# Altium footprint library 532611571.PcbLib: 3 footprints
Each footprint in its own frame and in the unit in brackets; x right, y up, seen from the top. Pads: shape width x height; smd on the part's side, far side on the other; paste and mask are expansions set on the pad; w line width, h text height; cw(c..) or ccw(c..) is an arc to the next point about the centre after c.
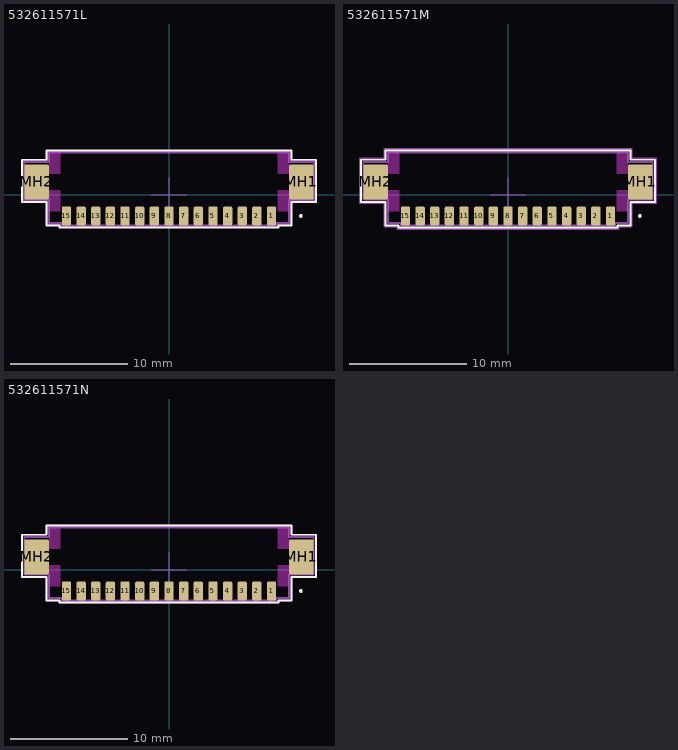
[diagram p0: the footprints below, top view; thin cyan lines are the x and y axes]

## 532611571L [mm] "Molex PicoBlade 15-Pin Right-Angle Connector with Tin Coating"
height 3.4
pads (17):
  rrect31% 0.8x1.6 smd: 1(8.75,-1.8) 2(7.5,-1.8) 3(6.25,-1.8) 4(5,-1.8) 5(3.75,-1.8) 6(2.5,-1.8) 7(1.25,-1.8) 8(0,-1.8) 9(-1.25,-1.8) 10(-2.5,-1.8) 11(-3.75,-1.8) 12(-5,-1.8) 13(-6.25,-1.8) 14(-7.5,-1.8) 15(-8.75,-1.8)
  rrect12% 2.1x3 smd: MH1(11.3,1.1) MH2(-11.3,1.1)
Top Layer keep-out:
  rectangle: -10.25,3.6 -9.25,1.8
  rectangle: 10.25,3.6 9.25,1.8
  rectangle: -10.25,-1.4 -9.25,0.4
  rectangle: 10.25,-1.4 9.25,0.4
Top Overlay:
  circle w0.16: c11.25,-1.8 r0.08
  lines w0.16: -12.55,-0.6 -10.45,-0.6 -10.45,-2.6 -9.35,-2.6 -9.35,-2.8 9.35,-2.8 9.35,-2.6 10.45,-2.6 10.45,-0.6 12.55,-0.6 12.55,3 10.45,3 10.45,3.8 -10.45,3.8 -10.45,3 -12.55,3 -12.55,-0.6
Top Component Center:
  lines w0.1: -1.5,0 1.5,0 ; 0,-1.5 0,1.5
Top Courtyard:
  lines w0.16: -12.45,-0.5 -10.35,-0.5 -10.35,-2.5 -9.25,-2.5 -9.25,-2.7 9.25,-2.7 9.25,-2.5 10.35,-2.5 10.35,-0.5 12.45,-0.5 12.45,2.9 10.35,2.9 10.35,3.7 -10.35,3.7 -10.35,2.9 -12.45,2.9 -12.45,-0.5
Top Assembly:
  lines w0.16: -12.35,-0.4 -10.25,-0.4 -10.25,-2.4 -9.15,-2.4 -9.15,-2.6 9.15,-2.6 9.15,-2.4 10.25,-2.4 10.25,-0.4 12.35,-0.4 12.35,2.8 10.25,2.8 10.25,3.6 -10.25,3.6 -10.25,2.8 -12.35,2.8 -12.35,-0.4
3D body "532611571L.STEP": height 3.4, standoff 0, extent -11.95,-2 11.95,3.2

## 532611571M [mm] "Molex PicoBlade 15-Pin Right-Angle Connector with Tin Coating"
height 3.4
pads (17):
  rrect31% 0.8x1.6 smd: 1(8.75,-1.8) 2(7.5,-1.8) 3(6.25,-1.8) 4(5,-1.8) 5(3.75,-1.8) 6(2.5,-1.8) 7(1.25,-1.8) 8(0,-1.8) 9(-1.25,-1.8) 10(-2.5,-1.8) 11(-3.75,-1.8) 12(-5,-1.8) 13(-6.25,-1.8) 14(-7.5,-1.8) 15(-8.75,-1.8)
  rrect12% 2.1x3 smd: MH1(11.3,1.1) MH2(-11.3,1.1)
Top Layer keep-out:
  rectangle: -10.25,3.6 -9.25,1.8
  rectangle: 10.25,3.6 9.25,1.8
  rectangle: -10.25,-1.4 -9.25,0.4
  rectangle: 10.25,-1.4 9.25,0.4
Top Overlay:
  circle w0.16: c11.25,-1.8 r0.08
  lines w0.16: -12.55,-0.6 -10.45,-0.6 -10.45,-2.6 -9.35,-2.6 -9.35,-2.8 9.35,-2.8 9.35,-2.6 10.45,-2.6 10.45,-0.6 12.55,-0.6 12.55,3 10.45,3 10.45,3.8 -10.45,3.8 -10.45,3 -12.55,3 -12.55,-0.6
Top Component Center:
  lines w0.1: -1.5,0 1.5,0 ; 0,-1.5 0,1.5
Top Courtyard:
  lines w0.16: -12.65,-0.7 -10.55,-0.7 -10.55,-2.7 -9.45,-2.7 -9.45,-2.9 9.45,-2.9 9.45,-2.7 10.55,-2.7 10.55,-0.7 12.65,-0.7 12.65,3.1 10.55,3.1 10.55,3.9 -10.55,3.9 -10.55,3.1 -12.65,3.1 -12.65,-0.7
Top Assembly:
  lines w0.16: -12.35,-0.4 -10.25,-0.4 -10.25,-2.4 -9.15,-2.4 -9.15,-2.6 9.15,-2.6 9.15,-2.4 10.25,-2.4 10.25,-0.4 12.35,-0.4 12.35,2.8 10.25,2.8 10.25,3.6 -10.25,3.6 -10.25,2.8 -12.35,2.8 -12.35,-0.4
3D body "532611571M.STEP": height 3.4, standoff 0, extent -11.95,-2 11.95,3.2

## 532611571N [mm] "Molex PicoBlade 15-Pin Right-Angle Connector with Tin Coating"
height 3.4
pads (17):
  rrect31% 0.8x1.6 smd: 1(8.75,-1.8) 2(7.5,-1.8) 3(6.25,-1.8) 4(5,-1.8) 5(3.75,-1.8) 6(2.5,-1.8) 7(1.25,-1.8) 8(0,-1.8) 9(-1.25,-1.8) 10(-2.5,-1.8) 11(-3.75,-1.8) 12(-5,-1.8) 13(-6.25,-1.8) 14(-7.5,-1.8) 15(-8.75,-1.8)
  rrect12% 2.1x3 smd: MH1(11.3,1.1) MH2(-11.3,1.1)
Top Layer keep-out:
  rectangle: -10.25,3.6 -9.25,1.8
  rectangle: 10.25,3.6 9.25,1.8
  rectangle: -10.25,-1.4 -9.25,0.4
  rectangle: 10.25,-1.4 9.25,0.4
Top Overlay:
  circle w0.16: c11.25,-1.8 r0.08
  lines w0.16: -12.55,-0.6 -10.45,-0.6 -10.45,-2.6 -9.35,-2.6 -9.35,-2.8 9.35,-2.8 9.35,-2.6 10.45,-2.6 10.45,-0.6 12.55,-0.6 12.55,3 10.45,3 10.45,3.8 -10.45,3.8 -10.45,3 -12.55,3 -12.55,-0.6
Top Component Center:
  lines w0.1: -1.5,0 1.5,0 ; 0,-1.5 0,1.5
Top Courtyard:
  lines w0.16: -12.55,-0.6 -10.45,-0.6 -10.45,-2.6 -9.35,-2.6 -9.35,-2.8 9.35,-2.8 9.35,-2.6 10.45,-2.6 10.45,-0.6 12.55,-0.6 12.55,3 10.45,3 10.45,3.8 -10.45,3.8 -10.45,3 -12.55,3 -12.55,-0.6
Top Assembly:
  lines w0.16: -12.35,-0.4 -10.25,-0.4 -10.25,-2.4 -9.15,-2.4 -9.15,-2.6 9.15,-2.6 9.15,-2.4 10.25,-2.4 10.25,-0.4 12.35,-0.4 12.35,2.8 10.25,2.8 10.25,3.6 -10.25,3.6 -10.25,2.8 -12.35,2.8 -12.35,-0.4
3D body "532611571N.STEP": height 3.4, standoff 0, extent -11.95,-2 11.95,3.2